# Altium integrated library CHP0603K9532DNT.IntLib: 1 symbol
Pins are listed as number, name and electrical type; pins without a type are passive.

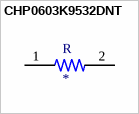
[diagram p0: symbol CHP0603K9532DNT]

## CHP0603K9532DNT
designator R
RES SMD THICK FILM 0603; MP: CHP0603K9532DNT; MF: Vishay; SnapEDA_Link: https://www.snapeda.com/parts/CHP0603K9532DNT/Vishay/view-part/909663/?ref=snap; Availability: Unavailable; Price: None; Value: *; Package: 0603 Vishay
footprint RESC1608X55
pins: 1, 2